# EAGLE library part ADIS16260BCCZ (library gyrolib)
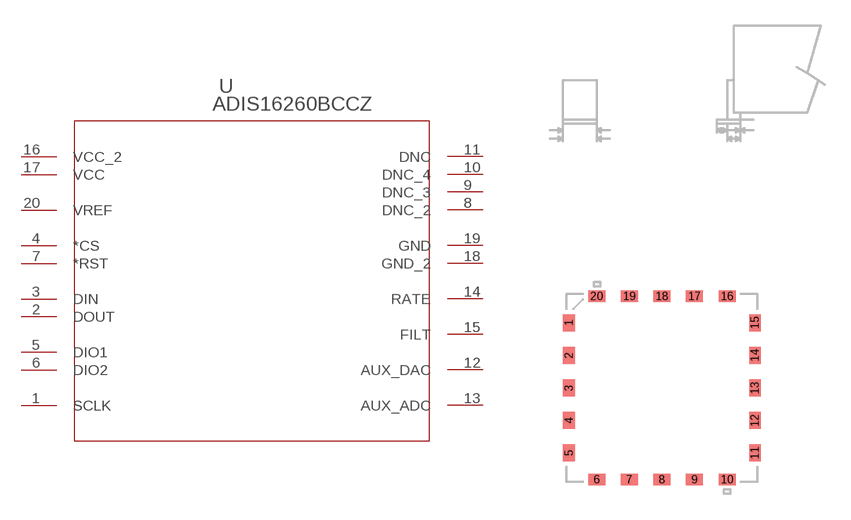
[diagram p0: symbol with the pads of LGA_CC-20-1; footprint LGA_CC-20-1]

Designator prefix U

## ADIS16260BCCZ  [LGA_CC-20-1]
1  SCLK  pas
2  DOUT  pas
3  DIN  pas
4  *CS  pas
5  DIO1  pas
6  DIO2  pas
7  *RST  pas
8  DNC_2  pas
9  DNC_3  pas
10  DNC_4  pas
11  DNC  pas
12  AUX_DAC  pas
13  AUX_ADC  pas
14  RATE  pas
15  FILT  pas
16  VCC_2  pas
17  VCC  pas
18  GND_2  pas
19  GND  pas
20  VREF  pas

## Footprint LGA_CC-20-1 (pad centres in mm)
smd 0.686 x 0.991: 1 -5.436,3.81; 2 -5.436,1.905; 3 -5.436,0; 4 -5.436,-1.905; 5 -5.436,-3.81; 11 5.436,-3.81; 12 5.436,-1.905; 13 5.436,0; 14 5.436,1.905; 15 5.436,3.81
smd 0.991 x 0.686: 6 -3.81,-5.359; 7 -1.905,-5.359; 8 0,-5.359; 9 1.905,-5.359; 10 3.81,-5.359; 16 3.81,5.359; 17 1.905,5.359; 18 0,5.359; 19 -1.905,5.359; 20 -3.81,5.359